# EAGLE library part MPL115A1 (library mpl115a1-barometer)
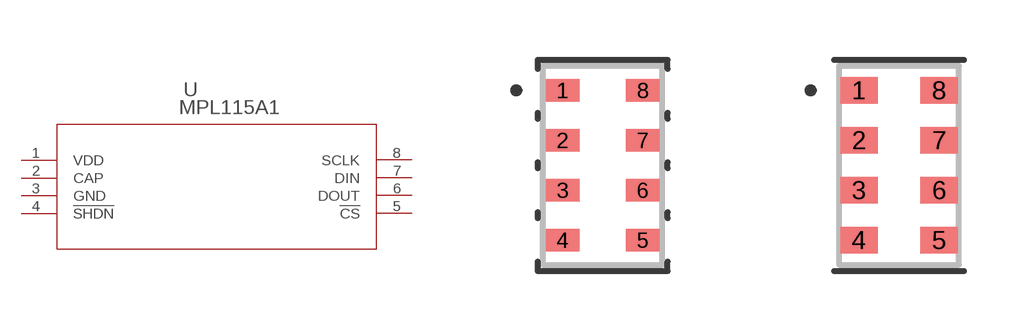
[diagram p0: symbol with the pads of LGA8; footprints LGA8, LGA8-M]

Designator prefix -

## MPL115A1 (MANUFACTURER_PART_NUMBER: mpl115a1; VENDOR: Freescale)  [LGA8]
1  VDD  pwr
2  CAP  out
3  GND  pwr
4  !SHDN  pas
5  !CS  pas
6  DOUT  out
7  DIN  in
8  SCLK  in

## MPL115A1LGA8-M (MANUFACTURER_PART_NUMBER: mpl115a1; VENDOR: Freescale)  [LGA8-M]
Pads as for LGA8

## MPL115A1LGA8-L (MANUFACTURER_PART_NUMBER: mpl115a1; VENDOR: Freescale)  [LGA8-L]
Pads as for LGA8

## Footprint LGA8 (pad centres in mm)
smd 0.838 x 0.559: 1 -1.003,1.875; 2 -1.003,0.625; 3 -1.003,-0.625; 4 -1.003,-1.875; 5 1.003,-1.875; 6 1.003,-0.625; 7 1.003,0.625; 8 1.003,1.875

## Footprint LGA8-M (pad centres in mm)
smd 0.94 x 0.66: 1 -1.003,1.875; 2 -1.003,0.625; 3 -1.003,-0.625; 4 -1.003,-1.875; 5 1.003,-1.875; 6 1.003,-0.625; 7 1.003,0.625; 8 1.003,1.875

## Footprint LGA8-L (pad centres in mm)
smd 0.838 x 0.559: 1 -1.003,1.875; 2 -1.003,0.625; 3 -1.003,-0.625; 4 -1.003,-1.875; 5 1.003,-1.875; 6 1.003,-0.625; 7 1.003,0.625; 8 1.003,1.875